# Altium footprint library tdk_choke_act1210d-131-2p-tl00.PcbLib: 1 footprints
Each footprint in its own frame and in the unit in brackets; x right, y up, seen from the top. Pads: shape width x height; smd on the part's side, far side on the other; paste and mask are expansions set on the pad; w line width, h text height; cw(c..) or ccw(c..) is an arc to the next point about the centre after c.
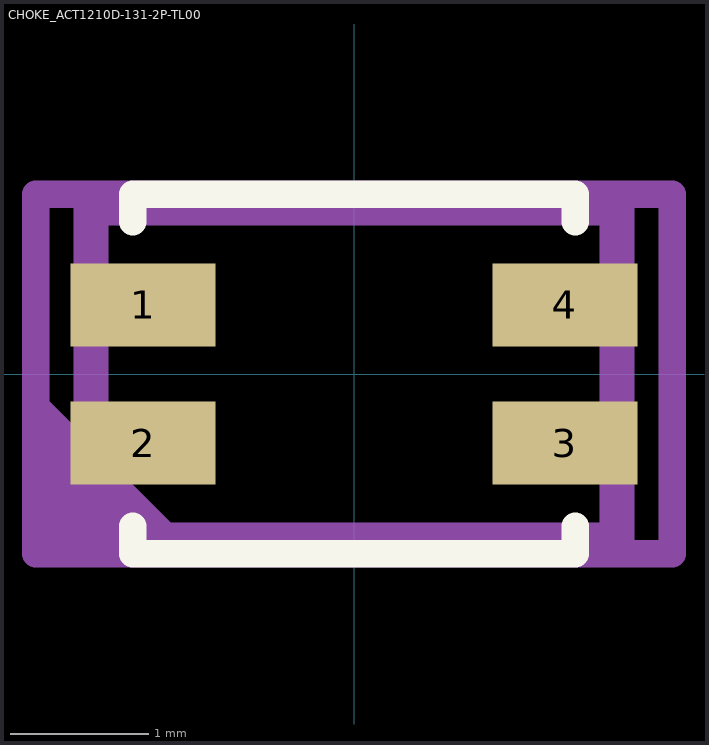
[diagram p0: the footprint, top view; thin cyan lines are the x and y axes]

## CHOKE_ACT1210D-131-2P-TL00 [mm]
height 2.5
pads (4):
  rect 1.05x0.6 smd: 1(-1.525,0.5) 2(-1.525,-0.5) 3(1.525,-0.5) 4(1.525,0.5)
Top Overlay:
  lines w0.2: -1.6,-1.1 -1.6,-1.3 1.6,-1.3 1.6,-1.1 ; -1.6,1.1 -1.6,1.3 1.6,1.3 1.6,1.1
Top 3D Body:
  lines w0.254: -1.9,-1.2 -1.9,1.2 1.9,1.2 1.9,-1.2 -1.9,-1.2
Top Courtyard:
  region: -2.3,-1.3 -2.3,-0.1 -1.1,-1.3
  lines w0.2: -2.3,-1.3 -2.3,1.3 2.3,1.3 2.3,-1.3 -2.3,-1.3
Top Designator:
  text ".Designator" at -1.25,-0.15 h0.6
3D body "act1210_colorized.step": height 2.36, standoff 0.01, extent -1.85,-1.25 1.85,1.25